# Altium schematic symbol library PNP Transistor.SchLib: 1 symbol
Pins are listed as number, name and electrical type; pins without a type are passive.

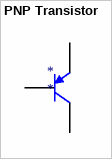
[diagram p0: symbol PNP Transistor]

## PNP Transistor
designator *
pins: 1 B, 2 E, 3 C